# Altium schematic symbol library SGM2035C-ADJ.SchLib: 1 symbol
Pins are listed as number, name and electrical type; pins without a type are passive.

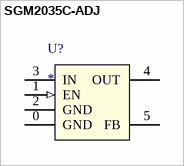
[diagram p0: symbol SGM2035C-ADJ]

## SGM2035C-ADJ
designator U?
500mA Ultra low Dropout low power RF Linear Regulators
pins: 0 GND (power), 1 EN (in), 2 GND (power), 3 IN (power), 4 OUT (power), 5 FB